# EAGLE library part POWER.TO.MCU (library LinnesLab-Connectors)
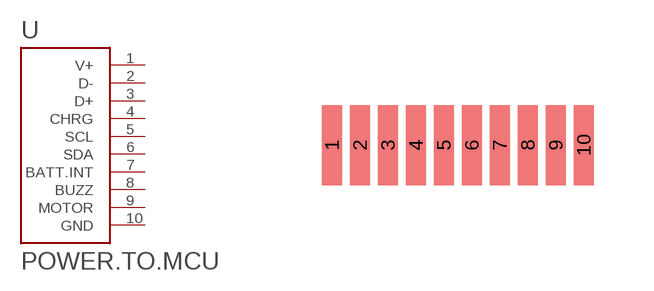
[diagram p15: symbol with the pads of POWER.TO.MCU; footprint POWER.TO.MCU]

Designator prefix -

## POWER.TO.MCU  [POWER.TO.MCU]
1  V+
2  D-
3  D+
4  CHRG
5  SCL
6  SDA
7  BATT.INT
8  BUZZ
9  MOTOR
10  GND

## Footprint POWER.TO.MCU (pad centres in mm)
smd 0.5 x 2: 1 -2.1,0; 2 -1.4,0; 3 -0.7,0; 4 0,0; 5 0.7,0; 6 1.4,0; 7 2.1,0; 8 2.8,0; 9 3.5,0; 10 4.2,0